# EAGLE library part BH1750 (library CanCubeSat)
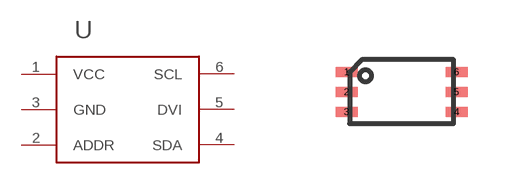
[diagram p35: symbol with the pads of WSOF6I; footprint WSOF6I]

Designator prefix -

## BH1750  [WSOF6I]
1  VCC
2  ADDR
3  GND
4  SDA
5  DVI
6  SCL

## Footprint WSOF6I (pad centres in mm)
smd 0.55 x 0.25: 1 -1.375,0.5; 2 -1.375,0; 3 -1.375,-0.5; 4 1.375,-0.5; 5 1.375,0; 6 1.375,0.5